# Altium footprint library Display Modules.PcbLib: 1 footprints
Each footprint in its own frame and in the unit in brackets; x right, y up, seen from the top. Pads: shape width x height; smd on the part's side, far side on the other; paste and mask are expansions set on the pad; w line width, h text height; cw(c..) or ccw(c..) is an arc to the next point about the centre after c.
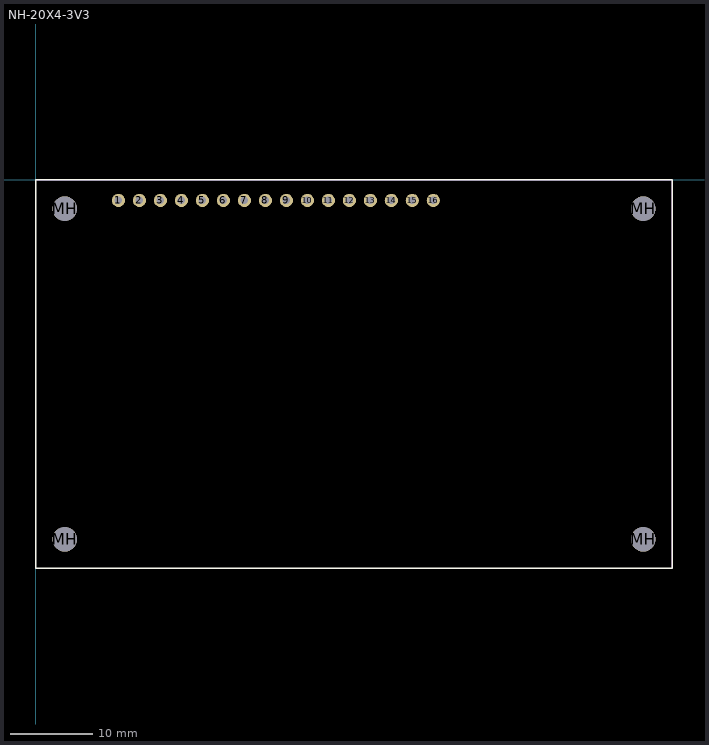
[diagram p0: the footprint, top view; thin cyan lines are the x and y axes]

## NH-20X4-3V3 [mm]
pads (20):
  round 1.6 hole 0.9 paste+0: 1(10,-2.5) 2(12.54,-2.5) 3(15.08,-2.5) 4(17.62,-2.5) 5(20.16,-2.5) 6(22.7,-2.5) 7(25.24,-2.5) 8(27.78,-2.5) 9(30.32,-2.5) 10(32.86,-2.5) 11(35.4,-2.5) 12(37.94,-2.5) 13(40.48,-2.5) 14(43.02,-2.5) 15(45.56,-2.5) 16(48.1,-2.5)
  round 3 hole 3 unplated paste+0: MH(3.5,-43.5) MH(3.5,-3.5) MH(73.5,-43.5) MH(73.5,-3.5)
Top Overlay:
  lines w0.2: 0,-47 77,-47 77,0 0,0 0,-47
Mechanical 13 (Mech13):
  lines w0.1: 0,-47 77,-47 77,0 0,0 0,-47